# Altium schematic symbol library CON12.Schlib: 1 symbol
Pins are listed as number, name and electrical type; pins without a type are passive.

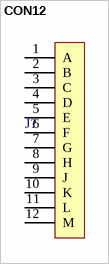
[diagram p0: symbol CON12]

## CON12
designator J?
pins: 1 A, 2 B, 3 C, 4 D, 5 E, 6 F, 7 G, 8 H, 9 J, 10 K, 11 L, 12 M
1 alternate drawing of the same symbol